# EAGLE library part AS5147 (library controller)
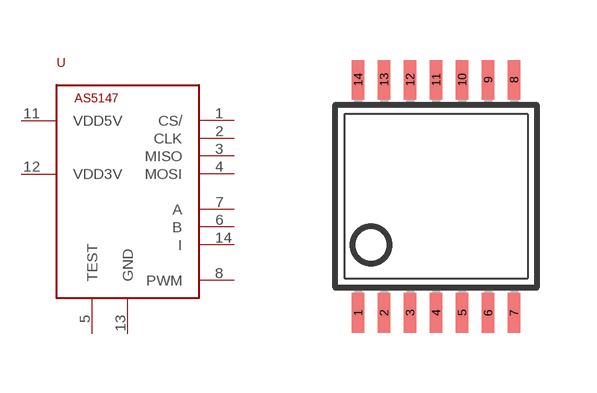
[diagram p2: symbol with the pads of TSSOP14; footprint TSSOP14]

Designator prefix -

## AS5147  [TSSOP14]
1  CS/
2  CLK
3  MISO
4  MOSI
5  TEST
6  B
7  A
8  PWM
11  VDD5V
12  VDD3V
13  GND
14  I

## Footprint TSSOP14 (pad centres in mm)
Thin Shrink Small Outline Plastic 14 MAX3223-MAX3243.pdf
smd 0.305 x 0.991: 1 -1.95,-2.918; 2 -1.3,-2.918; 3 -0.65,-2.918; 4 0,-2.918; 5 0.65,-2.918; 6 1.3,-2.918; 7 1.95,-2.918; 8 1.95,2.918; 9 1.3,2.918; 10 0.65,2.918; 11 0,2.918; 12 -0.65,2.918; 13 -1.3,2.918; 14 -1.95,2.918